# Altium schematic symbol library SCH - MCU - ATSAM - MICROCHIP SAML21G18B-MN QFN48.SchLib: 1 symbol
Pins are listed as number, name and electrical type; pins without a type are passive.

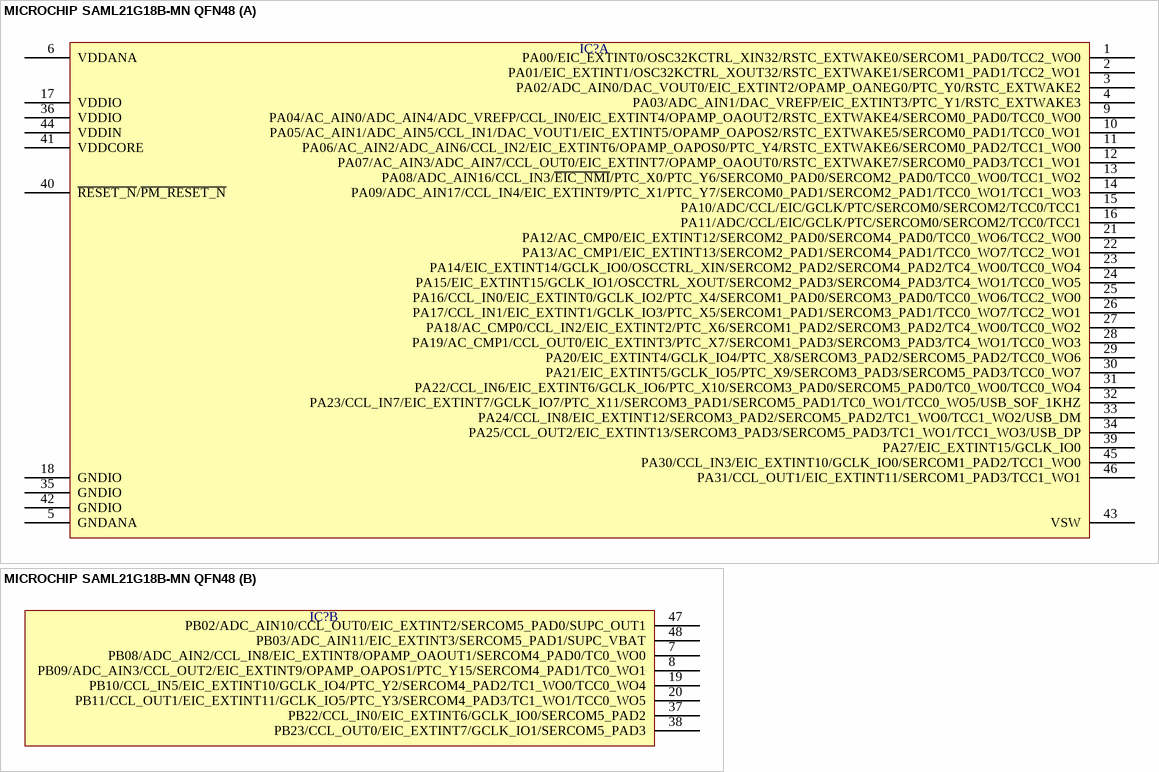
[diagram p0: symbol MICROCHIP SAML21G18B-MN QFN48]

## MICROCHIP SAML21G18B-MN QFN48
designator IC?  (value not drawn)
part A pins: 1 PA00/EIC_EXTINT0/OSC32KCTRL_XIN32/RSTC_EXTWAKE0/SERCOM1_PAD0/TCC2_WO0, 2 PA01/EIC_EXTINT1/OSC32KCTRL_XOUT32/RSTC_EXTWAKE1/SERCOM1_PAD1/TCC2_WO1, 3 PA02/ADC_AIN0/DAC_VOUT0/EIC_EXTINT2/OPAMP_OANEG0/PTC_Y0/RSTC_EXTWAKE2, 4 PA03/ADC_AIN1/DAC_VREFP/EIC_EXTINT3/PTC_Y1/RSTC_EXTWAKE3, 5 GNDANA, 6 VDDANA, 9 PA04/AC_AIN0/ADC_AIN4/ADC_VREFP/CCL_IN0/EIC_EXTINT4/OPAMP_OAOUT2/RSTC_EXTWAKE4/SERCOM0_PAD0/TCC0_WO0, 10 PA05/AC_AIN1/ADC_AIN5/CCL_IN1/DAC_VOUT1/EIC_EXTINT5/OPAMP_OAPOS2/RSTC_EXTWAKE5/SERCOM0_PAD1/TCC0_WO1, 11 PA06/AC_AIN2/ADC_AIN6/CCL_IN2/EIC_EXTINT6/OPAMP_OAPOS0/PTC_Y4/RSTC_EXTWAKE6/SERCOM0_PAD2/TCC1_WO0, 12 PA07/AC_AIN3/ADC_AIN7/CCL_OUT0/EIC_EXTINT7/OPAMP_OAOUT0/RSTC_EXTWAKE7/SERCOM0_PAD3/TCC1_WO1, 13 PA08/ADC_AIN16/CCL_IN3/~{EIC_NMI}/PTC_X0/PTC_Y6/SERCOM0_PAD0/SERCOM2_PAD0/TCC0_WO0/TCC1_WO2, 14 PA09/ADC_AIN17/CCL_IN4/EIC_EXTINT9/PTC_X1/PTC_Y7/SERCOM0_PAD1/SERCOM2_PAD1/TCC0_WO1/TCC1_WO3, 15 PA10/ADC/CCL/EIC/GCLK/PTC/SERCOM0/SERCOM2/TCC0/TCC1, 16 PA11/ADC/CCL/EIC/GCLK/PTC/SERCOM0/SERCOM2/TCC0/TCC1, 17 VDDIO, 18 GNDIO, 21 PA12/AC_CMP0/EIC_EXTINT12/SERCOM2_PAD0/SERCOM4_PAD0/TCC0_WO6/TCC2_WO0, 22 PA13/AC_CMP1/EIC_EXTINT13/SERCOM2_PAD1/SERCOM4_PAD1/TCC0_WO7/TCC2_WO1, 23 PA14/EIC_EXTINT14/GCLK_IO0/OSCCTRL_XIN/SERCOM2_PAD2/SERCOM4_PAD2/TC4_WO0/TCC0_WO4, 24 PA15/EIC_EXTINT15/GCLK_IO1/OSCCTRL_XOUT/SERCOM2_PAD3/SERCOM4_PAD3/TC4_WO1/TCC0_WO5, 25 PA16/CCL_IN0/EIC_EXTINT0/GCLK_IO2/PTC_X4/SERCOM1_PAD0/SERCOM3_PAD0/TCC0_WO6/TCC2_WO0, 26 PA17/CCL_IN1/EIC_EXTINT1/GCLK_IO3/PTC_X5/SERCOM1_PAD1/SERCOM3_PAD1/TCC0_WO7/TCC2_WO1, 27 PA18/AC_CMP0/CCL_IN2/EIC_EXTINT2/PTC_X6/SERCOM1_PAD2/SERCOM3_PAD2/TC4_WO0/TCC0_WO2, 28 PA19/AC_CMP1/CCL_OUT0/EIC_EXTINT3/PTC_X7/SERCOM1_PAD3/SERCOM3_PAD3/TC4_WO1/TCC0_WO3, 29 PA20/EIC_EXTINT4/GCLK_IO4/PTC_X8/SERCOM3_PAD2/SERCOM5_PAD2/TCC0_WO6, 30 PA21/EIC_EXTINT5/GCLK_IO5/PTC_X9/SERCOM3_PAD3/SERCOM5_PAD3/TCC0_WO7, 31 PA22/CCL_IN6/EIC_EXTINT6/GCLK_IO6/PTC_X10/SERCOM3_PAD0/SERCOM5_PAD0/TC0_WO0/TCC0_WO4, 32 PA23/CCL_IN7/EIC_EXTINT7/GCLK_IO7/PTC_X11/SERCOM3_PAD1/SERCOM5_PAD1/TC0_WO1/TCC0_WO5/USB_SOF_1KHZ, 33 PA24/CCL_IN8/EIC_EXTINT12/SERCOM3_PAD2/SERCOM5_PAD2/TC1_WO0/TCC1_WO2/USB_DM, 34 PA25/CCL_OUT2/EIC_EXTINT13/SERCOM3_PAD3/SERCOM5_PAD3/TC1_WO1/TCC1_WO3/USB_DP, 35 GNDIO, 36 VDDIO, 39 PA27/EIC_EXTINT15/GCLK_IO0, 40 ~{RESET_N}/~{PM_RESET_N}, 41 VDDCORE, 42 GNDIO, 43 VSW, 44 VDDIN, 45 PA30/CCL_IN3/EIC_EXTINT10/GCLK_IO0/SERCOM1_PAD2/TCC1_WO0, 46 PA31/CCL_OUT1/EIC_EXTINT11/SERCOM1_PAD3/TCC1_WO1
part B pins: 7 PB08/ADC_AIN2/CCL_IN8/EIC_EXTINT8/OPAMP_OAOUT1/SERCOM4_PAD0/TC0_WO0, 8 PB09/ADC_AIN3/CCL_OUT2/EIC_EXTINT9/OPAMP_OAPOS1/PTC_Y15/SERCOM4_PAD1/TC0_WO1, 19 PB10/CCL_IN5/EIC_EXTINT10/GCLK_IO4/PTC_Y2/SERCOM4_PAD2/TC1_WO0/TCC0_WO4, 20 PB11/CCL_OUT1/EIC_EXTINT11/GCLK_IO5/PTC_Y3/SERCOM4_PAD3/TC1_WO1/TCC0_WO5, 37 PB22/CCL_IN0/EIC_EXTINT6/GCLK_IO0/SERCOM5_PAD2, 38 PB23/CCL_OUT0/EIC_EXTINT7/GCLK_IO1/SERCOM5_PAD3, 47 PB02/ADC_AIN10/CCL_OUT0/EIC_EXTINT2/SERCOM5_PAD0/SUPC_OUT1, 48 PB03/ADC_AIN11/EIC_EXTINT3/SERCOM5_PAD1/SUPC_VBAT